# EAGLE library part LTC4000 (library GibbotV5)
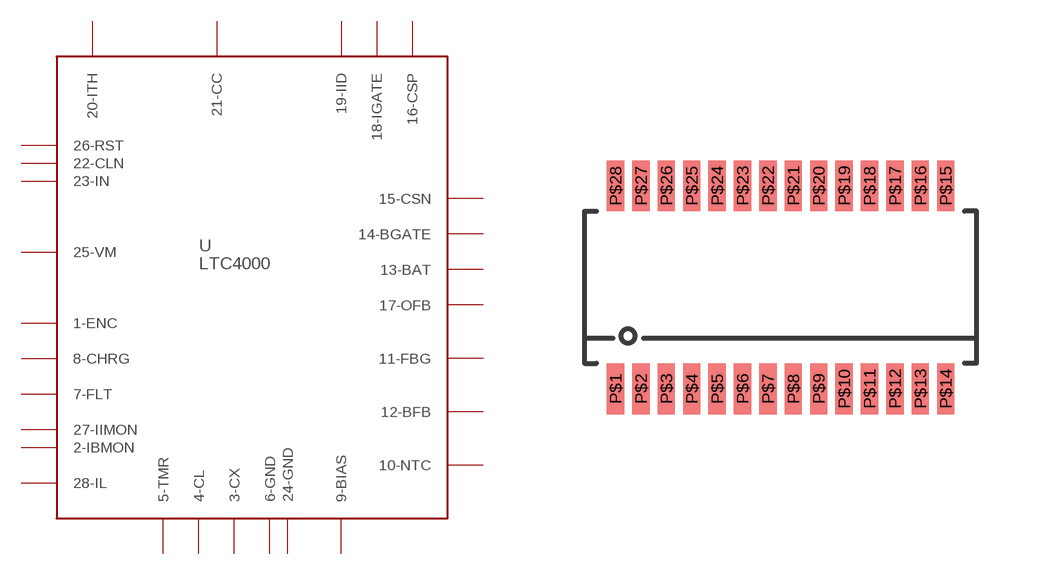
[diagram p11: symbol with the pads of SSOP28-NARROW; footprint SSOP28-NARROW]

Designator prefix -

## LTC4000  [SSOP28-NARROW]
P$1  1-ENC
P$2  2-IBMON
P$3  3-CX
P$4  4-CL
P$5  5-TMR
P$6  6-GND
P$7  7-FLT
P$8  8-CHRG
P$9  9-BIAS
P$10  10-NTC
P$11  11-FBG
P$12  12-BFB
P$13  13-BAT
P$14  14-BGATE
P$15  15-CSN
P$16  16-CSP
P$17  17-OFB
P$18  18-IGATE
P$19  19-IID
P$20  20-ITH
P$21  21-CC
P$22  22-CLN
P$23  23-IN
P$24  24-GND
P$25  25-VM
P$26  26-RST
P$27  27-IIMON
P$28  28-IL

## Footprint SSOP28-NARROW (pad centres in mm)
smd 0.432 x 1.27: P$1 -4.128,-2.54; P$2 -3.493,-2.54; P$3 -2.857,-2.54; P$4 -2.223,-2.54; P$5 -1.587,-2.54; P$6 -0.953,-2.54; P$7 -0.318,-2.54; P$8 0.318,-2.54; P$9 0.953,-2.54; P$10 1.587,-2.54; P$11 2.223,-2.54; P$12 2.857,-2.54; P$13 3.493,-2.54; P$14 4.128,-2.54; P$15 4.128,2.54; P$16 3.493,2.54; P$17 2.857,2.54; P$18 2.223,2.54; P$19 1.587,2.54; P$20 0.953,2.54; P$21 0.318,2.54; P$22 -0.318,2.54; P$23 -0.953,2.54; P$24 -1.587,2.54; P$25 -2.223,2.54; P$26 -2.857,2.54; P$27 -3.493,2.54; P$28 -4.128,2.54